# Altium schematic symbol library I7C4W008A120V-003-R.SchLib: 1 symbol
Pins are listed as number, name and electrical type; pins without a type are passive.

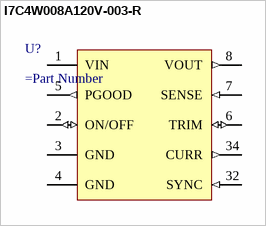
[diagram p0: symbol I7C4W008A120V-003-R]

## I7C4W008A120V-003-R
designator U?
=Description; ComponentLink1Description: New link; ComponentLink1URL: *; Supplier 1: Newark; Supplier Part Number 1: 69AH6303
pins: 1 VIN (power), 2 ON/OFF (io), 3 GND (power), 4 GND (power), 5 PGOOD (out), 6 TRIM (io), 7 SENSE (in), 8 VOUT (out), 32 SYNC (in), 34 CURR (out)